# EAGLE library part HDMI-PCIE (library dan-pc)
PCIe over HDMI Non-standard; compatible adapters sold at: http://www.hwtools.net/Adapter/PE4L.html
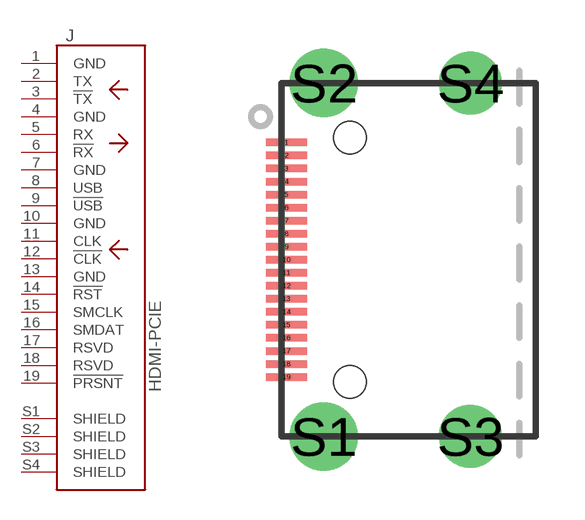
[diagram p2: symbol with the pads of HDMI-C; footprint HDMI-C]

Designator prefix J

## HDMI-PCIE-TYPEC  [HDMI-C]
1  GND  pas
2  TX  out
3  !TX  out
4  GND  pas
5  RX  in
6  !RX  in
7  GND  pas
8  USB
9  !USB
10  GND  pas
11  CLK  out
12  !CLK  out
13  GND  pas
14  !RST  out
15  SMCLK
16  SMDAT
17  RSVD  nc
18  RSVD  nc
19  !PRSNT
S1  SHIELD  pas
S2  SHIELD  pas
S3  SHIELD  pas
S4  SHIELD  pas

## Footprint HDMI-C (pad centres in mm)
HDMI Type-C (mini HDMI) e.g. Kycon KMDMIX-NS3A-WS-BTR: http://www.kycon.com/Catalog_PDF/KMDMIX.pdf Digi-Key doesn't seem to carry Type-C; try Mouser
smd 1.25 x 0.23: 1 -3.34,3.6; 2 -3.34,3.2; 3 -3.34,2.8; 4 -3.34,2.4; 5 -3.34,2; 6 -3.34,1.6; 7 -3.34,1.2; 8 -3.34,0.8; 9 -3.34,0.4; 10 -3.34,0; 11 -3.34,-0.4; 12 -3.34,-0.8; 13 -3.34,-1.2; 14 -3.34,-1.6; 15 -3.34,-2; 16 -3.34,-2.4; 17 -3.34,-2.8; 18 -3.34,-3.2; 19 -3.34,-3.6
drill 1.4 pad 1.93 round: S1 -2.19,-5.425; S2 -2.19,5.425
drill 1.2 pad 1.93 round: S3 2.31,-5.425; S4 2.31,5.425
hole 1 at -1.39,3.75
hole 1 at -1.39,-3.75